# Altium schematic symbol library AYZ0102AGRLC.SchLib: 1 symbol
Pins are listed as number, name and electrical type; pins without a type are passive.

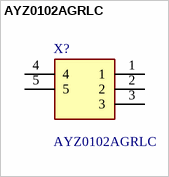
[diagram p0: symbol AYZ0102AGRLC]

## AYZ0102AGRLC
designator X?
Switch slide 100mA 12VDC SPDT PCB Slide Switch SPDT On-On 100 mA Slide; Manufacturer_Name: C & K COMPONENTS; Geometry.Height: 1mm; Mouser Part Number: 611-AYZ0102AGRLC; Mouser Price/Stock: https://www.mouser.co.uk/ProductDetail/CK/AYZ0102AGRLC?qs=dJbzCyn%252BCFYWKwcWEToS6A%3D%3D; Manufacturer_Part_Number: AYZ0102AGRLC; Datasheet Link: https://www.ckswitches.com/media/1431/ayz.pdf
footprint AYZ0102AGRLC
pins: 1, 2, 3, 4, 5